# EAGLE library part TLP291-4 (library HyTechDevices)
Toshiba Quad Channel Optocoupler TLP291-4 DC
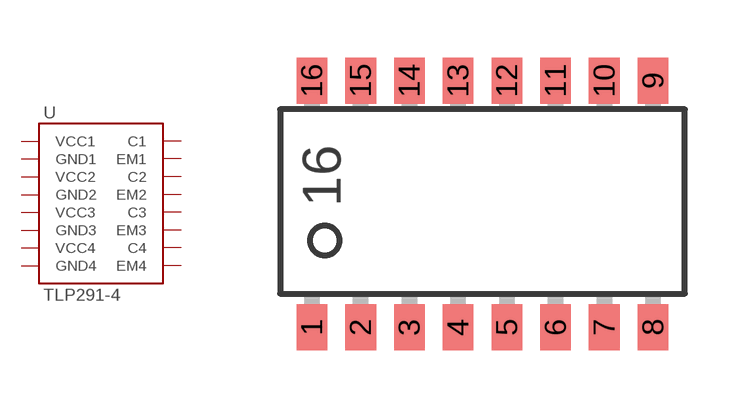
[diagram p33: symbol with the pads of 11-11F1; footprint 11-11F1]

Designator prefix -

## TLP291-4  [11-11F1]
1  VCC1  pas
2  GND1  pas
3  VCC2  pas
4  GND2  pas
5  VCC3  pas
6  GND3  pas
7  VCC4  pas
8  GND4  pas
9  EM4  pas
10  C4  pas
11  EM3  pas
12  C3  pas
13  EM2  pas
14  C2  pas
15  EM1  pas
16  C1  pas

## Footprint 11-11F1 (pad centres in mm)
Toshiba 11-11F1 Package Same pad spacing as SOIC-16, but larger footprint
smd 0.8 x 1.2: 1 -4.445,-3.277; 2 -3.175,-3.277; 3 -1.905,-3.277; 4 -0.635,-3.277; 5 0.635,-3.277; 6 1.905,-3.277; 7 3.175,-3.277; 8 4.445,-3.277; 9 4.445,3.15; 10 3.175,3.15; 11 1.905,3.15; 12 0.635,3.15; 13 -0.635,3.15; 14 -1.905,3.15; 15 -3.175,3.15; 16 -4.445,3.15